# Altium schematic symbol library PiezoControlBoard.SchLib: 33 symbols (part 2 of 2)
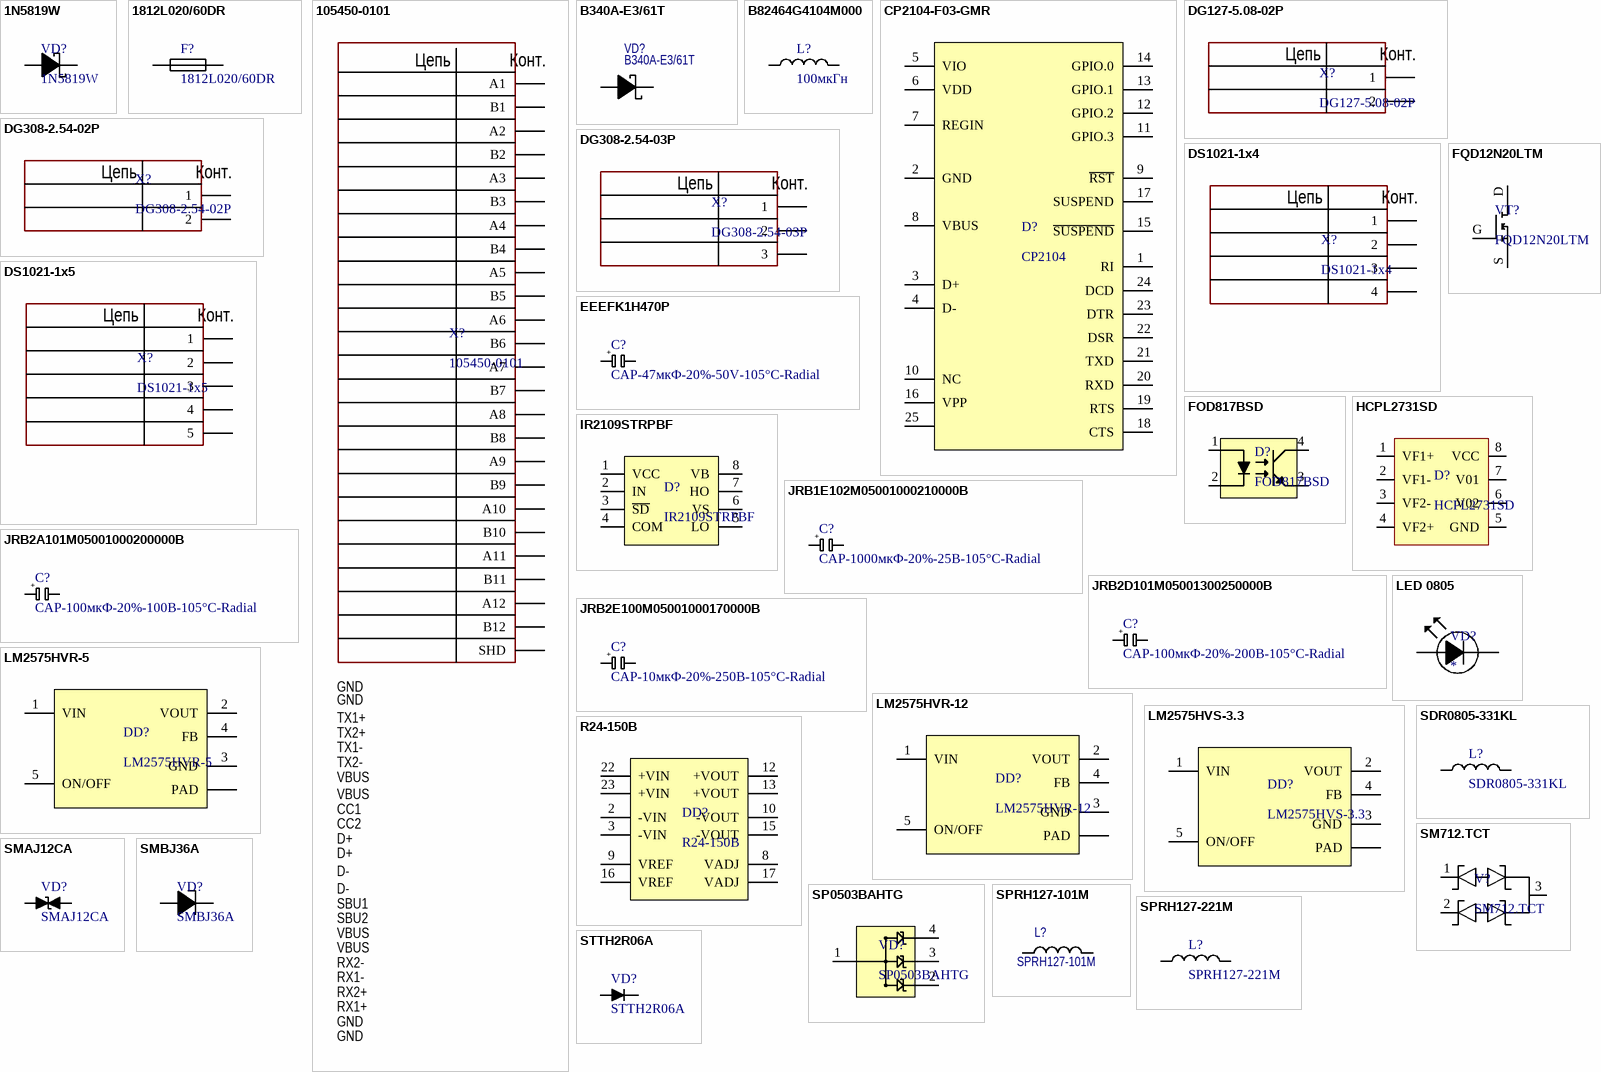
[diagram p1: symbols 1N5819W to STTH2R06A]

## SP0503BAHTG
designator VD?
SP050xBA Series 8.5 V 30 pF Triple Uni-Directional TVS Avalanche Diode-SOT143-4; Manufacturer: Littelfuse; Operating Supply Voltage: 5.5V; Direction: Unidirectional; Value: 30pF; Number of Channels: 3; Clamping Voltage: 7.8V; Power Line Protection: No; Polarity: Bidirectional,Unidirectional; Max Power Dissipation: 225mW; ESD Protection: Yes; Max Reverse Leakage Current: 100nA; Voltage Rating (DC): 5V; Clamping Voltage-Max: 8V; Supplier: Arrow Electronics; Supplier Part Number: SP0503BAHTG; Manufacturer Part Number: SP0503BAHTG; RoHS: Yes; Category: TVS Diodes; Stock: 87000; Pricing: 3000=0,2519, 9000=0,2382 (USD); Mounting Technology: Surface Mount; Case/Package: SOT-143; Pins: 4; Min Operating Temperature: -40°C; Max Operating Temperature: 85°C; Packaging: Tape and Reel; Number of Unidirectional Channels: 3; Reverse Standoff Voltage: 5.5V; Breakdown Voltage: 5.5V; Termination: SMD/SMT; Working Voltage: 5.5V; Peak Pulse Power: 225mW; Leakage Current: 100nA; Number of Elements: 3; Power Dissipation: 225mW; Diode Type: Avalanche; Series: SP05, SPA®; Length: 3.04mm; Width: 1.4mm; Height: 1.05mm; Depth: 1.4mm; Radiation Hardening: No; Reach SVHC Compliant: No; Lead Free: Lead Free; RoHS Compliant: Yes; ComponentLink1URL: https://datasheet.ciiva.com/15143/getdatasheetpartid-116020-15143550.pdf?src-supplier=Verical; ComponentLink1Description: https://datasheet.ciiva.com/15143/getdatasheetpartid-116020-15143550.pdf?src-supplier=Verical; ComponentLink2URL: https://datasheet.ciiva.com/7650/526672-7650894.pdf?src-supplier=Element14; ComponentLink2Description: https://datasheet.ciiva.com/7650/526672-7650894.pdf?src-supplier=Element14; ComponentLink3URL: https://datasheet.ciiva.com/8062/littefuse-spa-sp050x-8062422.pdf?src-supplier=Element14; ComponentLink3Description: https://datasheet.ciiva.com/8062/littefuse-spa-sp050x-8062422.pdf?src-supplier=Element14; ComponentLink4URL: https://datasheet.ciiva.com/22697/1911798-22697942.pdf?src-supplier=Element14; ComponentLink4Description: https://datasheet.ciiva.com/22697/1911798-22697942.pdf?src-supplier=Element14; ComponentLink5URL: https://datasheet.ciiva.com/4509/sp05x-leadfree-4509162.pdf?src-supplier=Mouser; ComponentLink5Description: https://datasheet.ciiva.com/4509/sp05x-leadfree-4509162.pdf?src-supplier=Mouser; ComponentLink6URL: https://datasheet.ciiva.com/332/sp05xxba-332551.pdf?src-supplier=Digikey; ComponentLink6Description: https://datasheet.ciiva.com/332/sp05xxba-332551.pdf?src-supplier=Digikey; ComponentLink7URL: https://datasheet.ciiva.com/332/sp05xxba-332552.pdf?src-supplier=Digikey; ComponentLink7Description: https://datasheet.ciiva.com/332/sp05xxba-332552.pdf?src-supplier=Digikey; ComponentLink8URL: https://datasheet.ciiva.com/332/sp05xxba-332550.pdf?src-supplier=Digikey; ComponentLink8Description: https://datasheet.ciiva.com/332/sp05xxba-332550.pdf?src-supplier=Digikey; ComponentLink9URL: https://datasheet.ciiva.com/16449/sp05xxba-16449463.pdf?src-supplier=Future+Electronics; ComponentLink9Description: https://datasheet.ciiva.com/16449/sp05xxba-16449463.pdf?src-supplier=Future+Electronics; Supplier 1: https://www.chipdip.ru/product/sp0503bahtg
footprint SOT-143
pins: 1, 2, 3, 4

## SPRH127-101M
designator L?
SMD Low Loss Power Inductor; Manufacturer: Codaca; Supplier: Digikey; Supplier Part Number: 4044-SPRH127-101MCT-ND; Manufacturer Part Number: SPRH127-101M; RoHS: No; Stock: 3159; Pricing: 1=1,13, 10=0,93, 100=0,7645 (USD)
footprint IND_SPRH127-101M
pins: 1, 2

## SPRH127-221M
designator L?
220мкГн, 2.22А, 12.3х12.3х8 мм, Катушка индуктивности SMD; Current - Saturation (Isat): 2.22A; Current Rating (Amps): 1.63A; Inductance: 220мкГн; Supplier 1: https://www.chipdip.ru/product/cdsprh127-221m-220mkgn-2.22a-12.3x12.3x8-mm-katushka-sce-9001493335
footprint IND_12.3X12.3
pins: 1, 2

## STTH2R06A
designator VD?
Rectifier Diode, 1 Phase, 1 Element, 2A, 600V V(RRM), Silicon; Manufacturer: STMicroelectronics; Element Configuration: Single; Forward Voltage: 1.25V; Max Forward Surge Current (Ifsm): 30A; Max Junction Temperature (Tj): 175°C; Number of Elements: 1; Peak Reverse Current: 2µA; Polarity: Standard; Recovery Time: 50ns; Supplier: RS; Supplier Part Number: 1685754; Manufacturer Part Number: STTH2R06A; RoHS: Compliant; Category: Rectifier Diodes; Stock: 4220; Pricing: 5000=0,1 (GBP); Average Rectified Current: 2A; Case/Package: SMA; China RoHS: Non-Compliant; Contact Plating: Tin; Country of Origin: Mainland China; Current Rating: 2A; Export Control Classification Number (ECCN) Code: EAR99; Forward Current: 2A; Height: 2.03mm; Harmonized Tariff Schedule (HTS) Code: 8541.10.00.80; Introduction Date: 2004-09-07; Lead Free: Lead Free; Length: 4.6mm; Lifecycle Status: Production; Max Operating Temperature: 175°C; Max Output current: 2A; Max Repetitive Reverse Voltage (Vrrm): 600V; Max Reverse Voltage (DC): 600V; Max Surge Current: 30A; Min Operating Temperature: -40°C; Mounting Technology: Surface Mount; Pins: 2; Number of Terminals: 2; Output Current: 2A; Packaging: Tape and Reel; Peak Non-Repetitive Surge Current: 30A; Radiation Hardening: No; REACH SVHC: No; Reverse Recovery Time: 50ns; Reverse Standoff Voltage: 600V; Reverse Voltage: 600V; Schedule B: 8541100080, 8541100080|8541100080|8541100080|8541100080|8541100080; Voltage Rating (DC): 600V; Width: 2.95mm; ComponentLink1URL: https://datasheet.octopart.com:443/STTH2R06A-STMicroelectronics-datasheet-8449154.pdf?src-supplier=element14+APAC; ComponentLink1Description: https://datasheet.octopart.com:443/STTH2R06A-STMicroelectronics-datasheet-8449154.pdf?src-supplier=element14+APAC; ComponentLink2URL: https://datasheet.octopart.com:443/STTH2R06A-STMicroelectronics-datasheet-12526389.pdf?src-supplier=Newark; ComponentLink2Description: https://datasheet.octopart.com:443/STTH2R06A-STMicroelectronics-datasheet-12526389.pdf?src-supplier=Newark; ComponentLink3URL: https://datasheet.octopart.com:443/STTH2R06A-STMicroelectronics-datasheet-14054141.pdf?src-supplier=iiiC; ComponentLink3Description: https://datasheet.octopart.com:443/STTH2R06A-STMicroelectronics-datasheet-14054141.pdf?src-supplier=iiiC; ComponentLink4URL: https://datasheet.octopart.com:443/STTH2R06A-STMicroelectronics-datasheet-8633837.pdf?src-supplier=Jameco; ComponentLink4Description: https://datasheet.octopart.com:443/STTH2R06A-STMicroelectronics-datasheet-8633837.pdf?src-supplier=Jameco; ComponentLink5URL: https://datasheet.octopart.com:443/STTH2R06A-STMicroelectronics-datasheet-30637.pdf?src-supplier=DigiKey; ComponentLink5Description: https://datasheet.octopart.com:443/STTH2R06A-STMicroelectronics-datasheet-30637.pdf?src-supplier=DigiKey; Supplier 1: https://www.chipdip.ru/product/stth2r02a-st-microelectronics-8000276925
footprint SMA
pins: 1 K, 2 A